# EAGLE library part 614008235023 (library USB3IO)
WR-COM Vertical Dual USB Type A=>Code : Con_I-O_COM_USB-2.0_A_614008235023 <http://katalog.we-online.de/media/images/eican/Con_I-O_COM_USB-2.0_A_614008235023_pf2.jpg> Details see: http://katalog.we-online.de/en/em/614_008_235_023 Created 2014-07-09, Karrer Zheng 2014 (C) Würth Elektronik
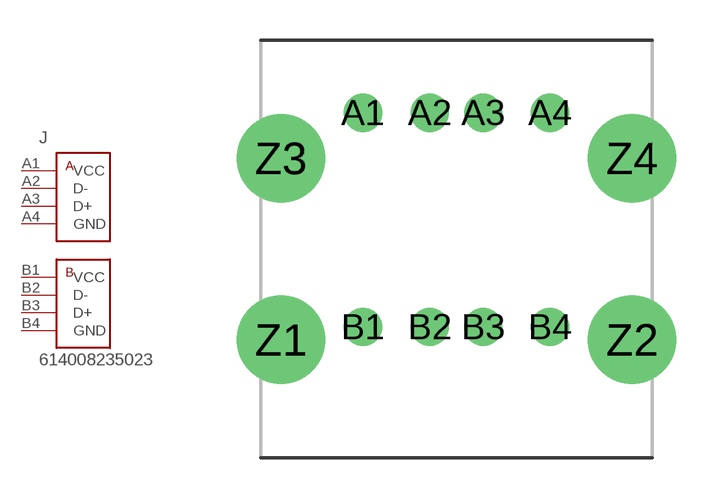
[diagram p65: symbol with the pads of 614008235023; footprint 614008235023]

Designator prefix J

## 614008235023  [614008235023]
A1  VCC
A2  D-
A3  D+
A4  GND
B1  VCC
B2  D-
B3  D+
B4  GND

## Footprint 614008235023 (pad centres in mm)
WR-COM Vertical Dual USB Type A
drill 0.92: A1 -3.5,5.1; A2 -1,5.1; A3 1,5.1; A4 3.5,5.1; B1 -3.5,-2.92; B2 -1,-2.92; B3 1,-2.92; B4 3.5,-2.92
drill 2.3: Z1 -6.57,-3.4; Z2 6.57,-3.4; Z3 -6.57,3.4; Z4 6.57,3.4